# EAGLE library part SAMC21E*A-? (library kiks-ic)
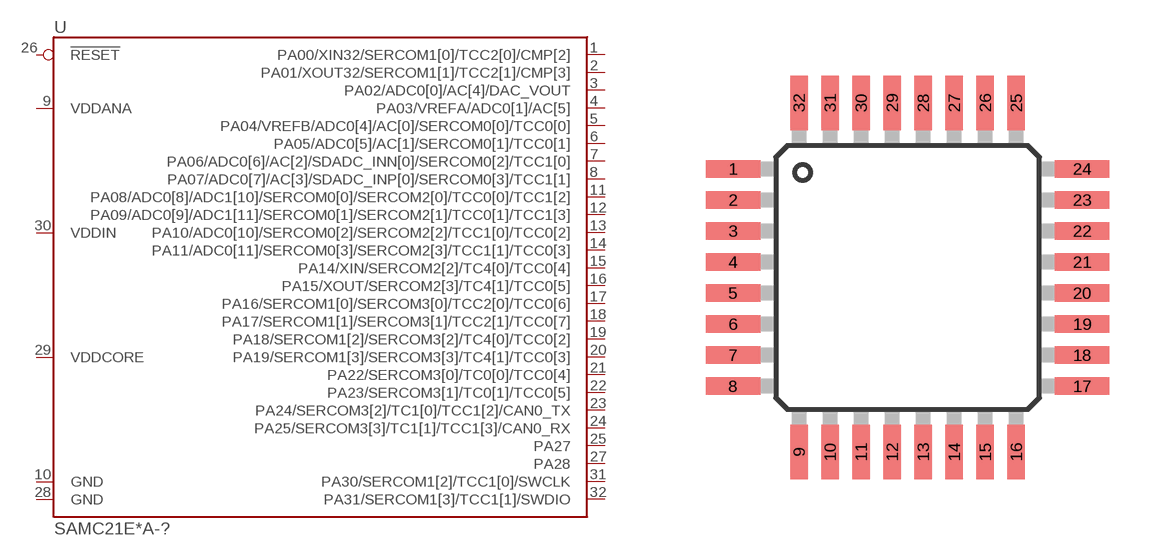
[diagram p21: symbol with the pads of QFP32-0.8; footprint QFP32-0.8]

Designator prefix U

## SAMC21E15A-A (FLASH: 32KB), SAMC21E16A-A (FLASH: 64KB), SAMC21E17A-A (FLASH: 128KB), SAMC21E18A-A (FLASH: 256KB)  [QFP32-0.8]
1  PA00/XIN32/SERCOM1[0]/TCC2[0]/CMP[2]
2  PA01/XOUT32/SERCOM1[1]/TCC2[1]/CMP[3]
3  PA02/ADC0[0]/AC[4]/DAC_VOUT
4  PA03/VREFA/ADC0[1]/AC[5]
5  PA04/VREFB/ADC0[4]/AC[0]/SERCOM0[0]/TCC0[0]
6  PA05/ADC0[5]/AC[1]/SERCOM0[1]/TCC0[1]
7  PA06/ADC0[6]/AC[2]/SDADC_INN[0]/SERCOM0[2]/TCC1[0]
8  PA07/ADC0[7]/AC[3]/SDADC_INP[0]/SERCOM0[3]/TCC1[1]
9  VDDANA
10  GND
11  PA08/ADC0[8]/ADC1[10]/SERCOM0[0]/SERCOM2[0]/TCC0[0]/TCC1[2]
12  PA09/ADC0[9]/ADC1[11]/SERCOM0[1]/SERCOM2[1]/TCC0[1]/TCC1[3]
13  PA10/ADC0[10]/SERCOM0[2]/SERCOM2[2]/TCC1[0]/TCC0[2]
14  PA11/ADC0[11]/SERCOM0[3]/SERCOM2[3]/TCC1[1]/TCC0[3]
15  PA14/XIN/SERCOM2[2]/TC4[0]/TCC0[4]
16  PA15/XOUT/SERCOM2[3]/TC4[1]/TCC0[5]
17  PA16/SERCOM1[0]/SERCOM3[0]/TCC2[0]/TCC0[6]
18  PA17/SERCOM1[1]/SERCOM3[1]/TCC2[1]/TCC0[7]
19  PA18/SERCOM1[2]/SERCOM3[2]/TC4[0]/TCC0[2]
20  PA19/SERCOM1[3]/SERCOM3[3]/TC4[1]/TCC0[3]
21  PA22/SERCOM3[0]/TC0[0]/TCC0[4]
22  PA23/SERCOM3[1]/TC0[1]/TCC0[5]
23  PA24/SERCOM3[2]/TC1[0]/TCC1[2]/CAN0_TX
24  PA25/SERCOM3[3]/TC1[1]/TCC1[3]/CAN0_RX
25  PA27
26  !RESET
27  PA28
28  GND
29  VDDCORE
30  VDDIN
31  PA30/SERCOM1[2]/TCC1[0]/SWCLK
32  PA31/SERCOM1[3]/TCC1[1]/SWDIO

## Footprint QFP32-0.8 (pad centres in mm)
smd 1.4 x 0.45: 1 -4.5,2.8; 2 -4.5,2; 3 -4.5,1.2; 4 -4.5,0.4; 5 -4.5,-0.4; 6 -4.5,-1.2; 7 -4.5,-2; 8 -4.5,-2.8; 17 4.5,-2.8; 18 4.5,-2; 19 4.5,-1.2; 20 4.5,-0.4; 21 4.5,0.4; 22 4.5,1.2; 23 4.5,2; 24 4.5,2.8
smd 0.45 x 1.4: 9 -2.8,-4.5; 10 -2,-4.5; 11 -1.2,-4.5; 12 -0.4,-4.5; 13 0.4,-4.5; 14 1.2,-4.5; 15 2,-4.5; 16 2.8,-4.5; 25 2.8,4.5; 26 2,4.5; 27 1.2,4.5; 28 0.4,4.5; 29 -0.4,4.5; 30 -1.2,4.5; 31 -2,4.5; 32 -2.8,4.5